# Altium footprint library LEDCubeFP.PcbLib: 1 footprints
Each footprint in its own frame and in the unit in brackets; x right, y up, seen from the top. Pads: shape width x height; smd on the part's side, far side on the other; paste and mask are expansions set on the pad; w line width, h text height; cw(c..) or ccw(c..) is an arc to the next point about the centre after c.
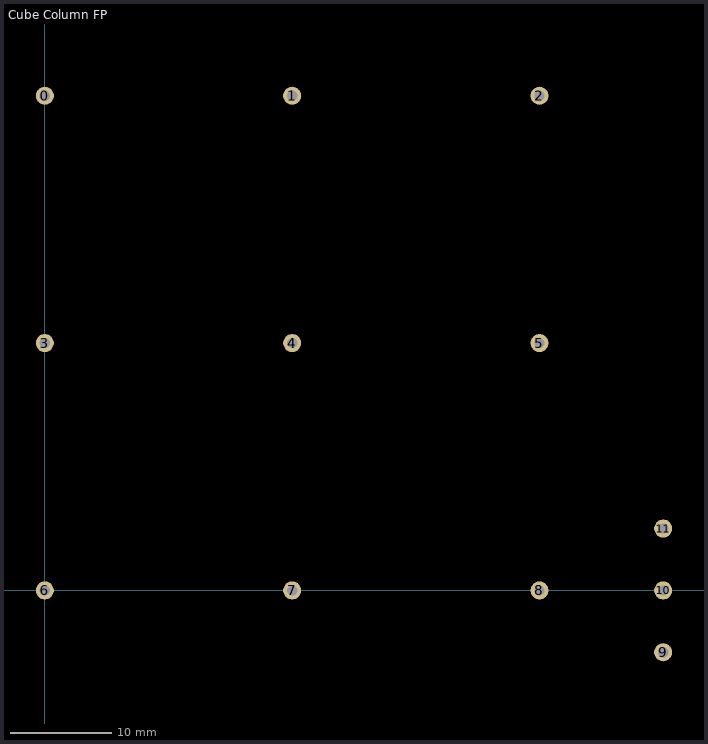
[diagram p0: the footprint, top view; thin cyan lines are the x and y axes]

## Cube Column FP [mil]
pads (12):
  round 70 hole 40: 0(0,1920) 1(960,1920) 2(1920,1920) 3(0,960) 4(960,960) 5(1920,960) 6(0,0) 7(960,0) 8(1920,0) 9(2400,-240) 10(2400,0) 11(2400,240)